# EAGLE library part LIS302 (library GTA04b7)
Accelerometer LIS302
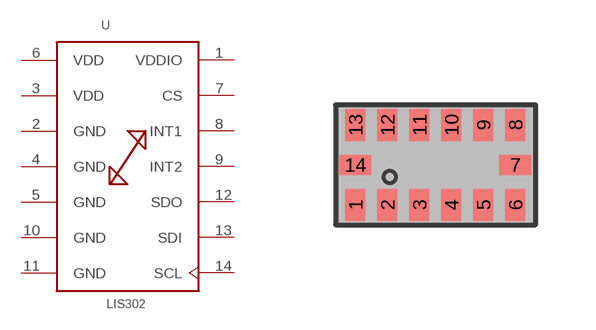
[diagram p23: symbol with the pads of LGA-DIL-12+2; footprint LGA-DIL-12+2]

Designator prefix -

## LIS302DLTR  [LGA-DIL-12+2]
1  VDDIO  pwr
2  GND  pwr
3  VDD  in
4  GND  pwr
5  GND  pwr
6  VDD  pwr
7  CS  in
8  INT1  out
9  INT2  out
10  GND  pwr
11  GND  in
12  SDO
13  SDI
14  SCL  in

## Footprint LGA-DIL-12+2 (pad centres in mm)
smd 0.5 x 0.8: 1 -2,-1; 2 -1.2,-1; 3 -0.4,-1; 4 0.4,-1; 5 1.2,-1; 6 2,-1; 8 2,1; 9 1.2,1; 10 0.4,1; 11 -0.4,1; 12 -1.2,1; 13 -2,1
smd 0.8 x 0.5: 7 2,0; 14 -2,0